# EAGLE library part DAC124S085 (library SKAARHOJ)
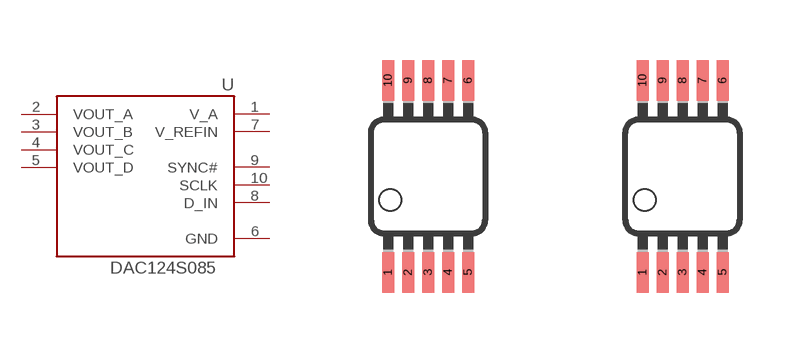
[diagram p30: symbol with the pads of MSOP10; footprints MSOP10, _TEST]

Designator prefix -

## DAC124S085  [MSOP10]
1  V_A  pwr
2  VOUT_A  out
3  VOUT_B  out
4  VOUT_C  out
5  VOUT_D  out
6  GND  pwr
7  V_REFIN  in
8  D_IN  in
9  SYNC#  in
10  SCLK  in

## DAC124S085TEST  [_TEST]
Pads as for MSOP10

## Footprint MSOP10 (pad centres in mm)
10 Lead MSOP Package NS Package Number MUB10A Source: http://cache.national.com/ds/LM/LM5030.pdf
smd 0.3 x 1.02: 1 -1,-2.4; 2 -0.5,-2.4; 3 0,-2.4; 4 0.5,-2.4; 5 1,-2.4; 6 1,2.4; 7 0.5,2.4; 8 0,2.4; 9 -0.5,2.4; 10 -1,2.4

## Footprint _TEST (pad centres in mm)
smd 0.3 x 1.02: 1 -2.27,-1.13; 2 -1.77,-1.13; 3 -1.27,-1.13; 4 -0.77,-1.13; 5 -0.27,-1.13; 6 -0.27,3.67; 7 -0.77,3.67; 8 -1.27,3.67; 9 -1.77,3.67; 10 -2.27,3.67